# Altium footprint library GK90111.PcbLib: 5 footprints
Each footprint in its own frame and in the unit in brackets; x right, y up, seen from the top. Pads: shape width x height; smd on the part's side, far side on the other; paste and mask are expansions set on the pad; w line width, h text height; cw(c..) or ccw(c..) is an arc to the next point about the centre after c.
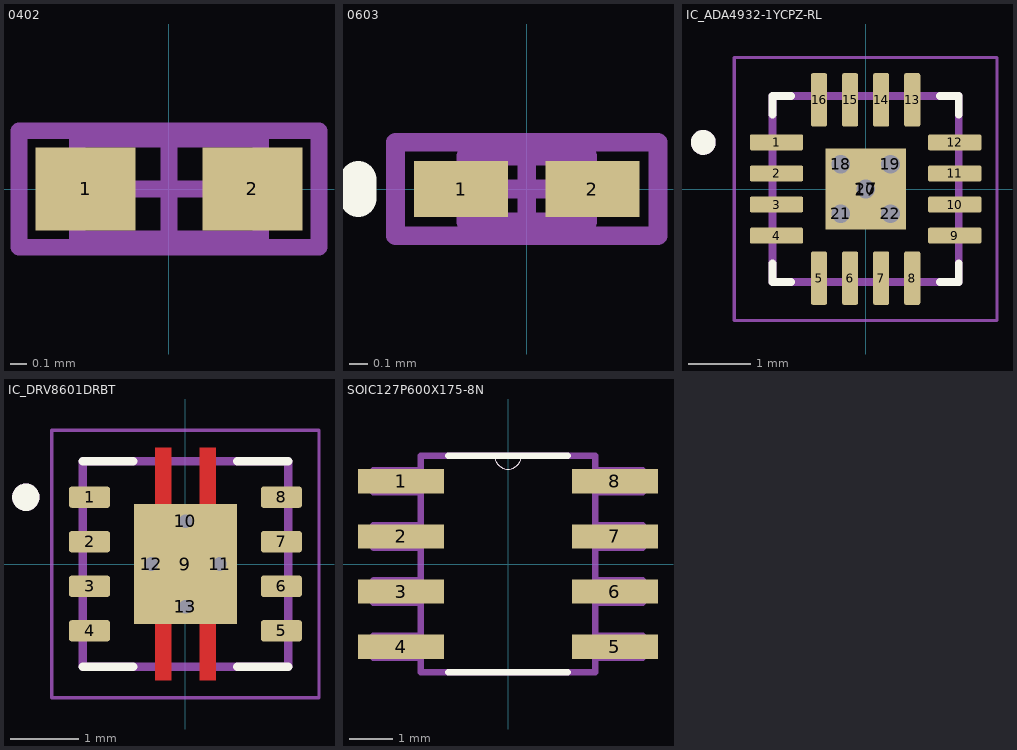
[diagram p0: the footprints below, top view; thin cyan lines are the x and y axes]

## 0402 [mm] "Chip Capacitor, Body 1.0x0.5mm, IPC High Density"
height 1.3
pads (2):
  rect 0.6x0.5 smd: 1(-0.5,0) 2(0.5,0)
Mechanical 13:
  lines w0.1: -0.55,-0.3 -0.55,0.3 0.55,0.3 0.55,-0.3 -0.55,-0.3
Mechanical 15:
  lines w0.1: -0.3,0 0.3,0 ; 0,-0.3 0,0.3 ; -0.9,-0.35 -0.9,0.35 0.9,0.35 0.9,-0.35 -0.9,-0.35
3D body: height 1.3, standoff 0, extent -0.55,-0.3 0.55,0.3

## 0603 [mm] "Chip Inductor, Body 0.6x0.3mm, IPC High Density"
height 0.55
pads (2):
  rect 0.5x0.3 smd: 1(-0.35,0) 2(0.35,0)
Top Overlay:
  lines w0.2: -0.9,-0.05 -0.9,0.05
Mechanical 13:
  lines w0.1: -0.325,-0.175 0.325,-0.175 0.325,0.175 -0.325,0.175 -0.325,-0.175
Mechanical 15:
  lines w0.1: -0.175,0 0.175,0 ; 0,-0.175 0,0.175 ; -0.7,-0.25 0.7,-0.25 0.7,0.25 -0.7,0.25 -0.7,-0.25
3D body: height 0.55, standoff 0, extent -0.325,-0.175 0.325,0.175

## IC_ADA4932-1YCPZ-RL [mm]
pads (22):
  rrect25% 0.86x0.26 smd mask+0: 1(-1.435,0.75) 2(-1.435,0.25) 3(-1.435,-0.25) 4(-1.435,-0.75) 9(1.435,-0.75) 10(1.435,-0.25) 11(1.435,0.25) 12(1.435,0.75)
  rrect25% 0.26x0.86 smd mask+0: 5(-0.75,-1.435) 6(-0.25,-1.435) 7(0.25,-1.435) 8(0.75,-1.435) 13(0.75,1.435) 14(0.25,1.435) 15(-0.25,1.435) 16(-0.75,1.435)
  rect 1.3x1.3 smd paste-0.239: 17(0,0)
  round 0.4 hole 0.3 mask+0: 18(-0.4,0.4) 19(0.4,0.4) 20(0,0) 21(-0.4,-0.4) 22(0.4,-0.4)
Top Overlay:
  circle w0.2: c-2.615,0.75 r0.1
  lines w0.127: -1.5,-1.2 -1.5,-1.5 -1.2,-1.5 ; -1.5,1.2 -1.5,1.5 -1.2,1.5 ; 1.2,-1.5 1.5,-1.5 1.5,-1.2 ; 1.2,1.5 1.5,1.5 1.5,1.2
Top Solder:
  drawing of 16 lines, arcs and shapes, not listed
Mechanical 13:
  circle w0.2: c-2.615,0.75 r0.1
  lines w0.127: -1.5,-1.5 -1.5,1.5 1.5,1.5 1.5,-1.5 -1.5,-1.5
Mechanical 15:
  lines w0.05: -2.115,-2.115 2.115,-2.115 2.115,2.115 -2.115,2.115 -2.115,-2.115

## IC_DRV8601DRBT [mm]
pads (13):
  rrect25% 0.6x0.31 smd mask+0: 1(-1.4,0.975) 2(-1.4,0.325) 3(-1.4,-0.325) 4(-1.4,-0.975) 5(1.4,-0.975) 6(1.4,-0.325) 7(1.4,0.325) 8(1.4,0.975)
  rect 1.5x1.75 smd paste-2 mask+0: 9(0,0)
  round 0.4 hole 0.2 mask+0: 10(0,0.625) 11(0.5,0) 12(-0.5,0) 13(0,-0.625)
Top Layer:
  region: 0.44,0.875 0.75,0.875 0.75,-0.875 0.44,-0.875 0.44,-1.7 0.21,-1.7 0.21,-0.875 -0.21,-0.875 -0.21,-1.7 -0.44,-1.7 -0.44,-0.875 -0.75,-0.875 -0.75,0.875 -0.44,0.875 -0.44,1.7 -0.21,1.7 -0.21,0.875 0.21,0.875 0.21,1.7 0.44,1.7
Top Overlay:
  circle w0.2: c-2.33,0.975 r0.1
  lines w0.127: -1.5,-1.5 -0.76,-1.5 ; -1.5,1.5 -0.76,1.5 ; 0.76,-1.5 1.5,-1.5 ; 0.76,1.5 1.5,1.5
Top Paste:
  region: 0.67,-0.775 -0.67,-0.775 -0.67,0.775 0.67,0.775
  region: -0.21,0.975 -0.44,0.975 -0.44,1.7 -0.21,1.7
  region: 0.44,0.975 0.21,0.975 0.21,1.7 0.44,1.7
  region: 0.44,-1.7 0.21,-1.7 0.21,-0.975 0.44,-0.975
  region: -0.21,-1.7 -0.44,-1.7 -0.44,-0.975 -0.21,-0.975
Top Solder:
  region: 0.51,0.945 0.82,0.945 0.82,-0.945 0.51,-0.945 0.51,-1.77 0.14,-1.77 0.14,-0.945 -0.14,-0.945 -0.14,-1.77 -0.51,-1.77 -0.51,-0.945 -0.82,-0.945 -0.82,0.945 -0.51,0.945 -0.51,1.77 -0.14,1.77 -0.14,0.945 0.14,0.945 0.14,1.77 0.51,1.77
  region: -1.03,0.75 -1.77,0.75 -1.77,1.2 -1.03,1.2
  region: 1.77,0.75 1.03,0.75 1.03,1.2 1.77,1.2
  region: -1.03,0.1 -1.77,0.1 -1.77,0.55 -1.03,0.55
  region: -1.03,-0.55 -1.77,-0.55 -1.77,-0.1 -1.03,-0.1
  region: -1.03,-1.2 -1.77,-1.2 -1.77,-0.75 -1.03,-0.75
  region: 1.77,0.1 1.03,0.1 1.03,0.55 1.77,0.55
  region: 1.77,-0.55 1.03,-0.55 1.03,-0.1 1.77,-0.1
  region: 1.77,-1.2 1.03,-1.2 1.03,-0.75 1.77,-0.75
Mechanical 13:
  circle w0.2: c-2.33,0.975 r0.1
  lines w0.127: -1.5,-1.5 1.5,-1.5 1.5,1.5 -1.5,1.5 -1.5,-1.5
Mechanical 15:
  lines w0.05: -1.95,-1.95 1.95,-1.95 1.95,1.95 -1.95,1.95 -1.95,-1.95

## SOIC127P600X175-8N [mil]
pads (8):
  rect 78x22 smd: 1(-97,75) 2(-97,25) 3(-97,-25) 4(-97,-75) 5(97,-75) 6(97,-25) 7(97,25) 8(97,75)
Top Overlay:
  lines w0: -12,98 ccw(c0,98) 12,98
  lines w6: -54,-98 54,-98 ; -54,98 -12,98 12,98 54,98
Mechanical 13:
  lines w0: -12,98 ccw(c0,98) 12,98
  lines w6: -122,-85 -79,-85 -79,-65 -122,-65 -122,-85 ; -122,-35 -79,-35 -79,-15 -122,-15 -122,-35 ; -122,15 -79,15 -79,35 -122,35 -122,15 ; -122,65 -79,65 -79,85 -122,85 -122,65 ; -79,-98 -79,98 -12,98 12,98 79,98 79,-98 -79,-98 ; 79,-85 122,-85 122,-65 79,-65 79,-85 ; 79,-35 122,-35 122,-15 79,-15 79,-35 ; 79,15 122,15 122,35 79,35 79,15 ; 79,65 122,65 122,85 79,85 79,65
3D body "step_temp.STEP": height 68.9, standoff 0, extent -118.11,-96.46 118.11,96.46